# Altium integrated library Headers_Connectors.IntLib: 26 symbols
Pins are listed as number, name and electrical type; pins without a type are passive.

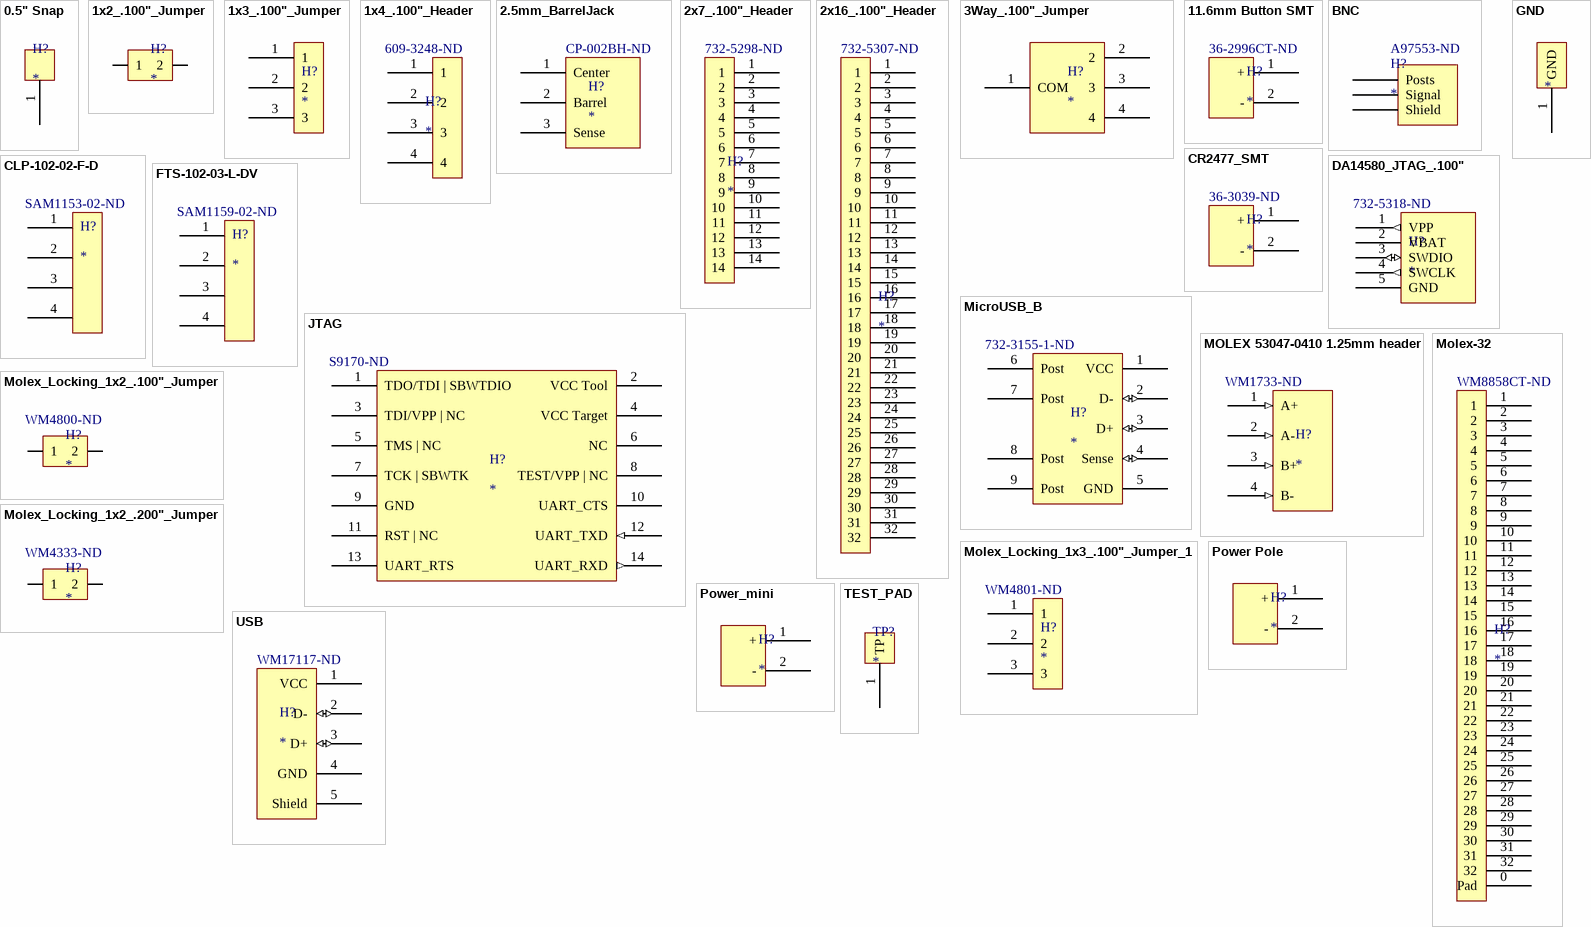
[diagram p0: symbols 0.5" Snap to USB]

## 0.5" Snap
designator H?
footprint 0.5" Snap
pins: 1

## 1x2_.100"_Jumper
designator H?
Supplier 1: Digi-Key; Supplier Part Number 1: 609-4434-ND
footprint 1x2_.100"_Jumper
pins: 1, 2

## 1x3_.100"_Jumper
designator H?
Supplier 1: Digi-Key; Supplier Part Number 1: 609-3461-ND
footprint 1x3_.100"_Jumper
pins: 1, 2, 3

## 1x4_.100"_Header
designator H?  Supplier Part Number 1: 609-3248-ND
Supplier 1: Digi-Key
footprint 1x4_.100"_Header
pins: 1, 2, 3, 4

## 2.5mm_BarrelJack
designator H?  Supplier Part Number 1: CP-002BH-ND
2.5mmCenter Pin; Supplier 1: Digikey
footprint CUI_BarrelJack
pins: 1 Center (power), 2 Barrel (power), 3 Sense (power)

## 2x7_.100"_Header
designator H?  Supplier Part Number 1: 732-5298-ND
Supplier 1: Digi-Key
footprint 2x7_.100"_header2
footprint 2x7_.100"_header2Reverse
pins: 1, 2, 3, 4, 5, 6, 7, 8, 9, 10, 11, 12, 13, 14

## 2x16_.100"_Header
designator H?  Supplier Part Number 1: 732-5307-ND
Supplier 1: Digi-Key
footprint 2x16_.100"_Header
pins: 1, 2, 3, 4, 5, 6, 7, 8, 9, 10, 11, 12, 13, 14, 15, 16, 17, 18, 19, 20, 21, 22, 23, 24, 25, 26, 27, 28, 29, 30, 31, 32

## 3Way_.100"_Jumper
designator H?
footprint 3Way_.100"_Jumper
pins: 1 COM, 2, 3, 4

## 11.6mm Button SMT
designator H?  Supplier Part Number 1: 36-2996CT-ND
Supplier 1: Digikey
footprint KEYSTONE_11.6mm
pins: 1 + (power), 2 - (power)

## BNC
designator H?  Supplier Part Number 1: A97553-ND
BNC; Supplier 1: Digikey
footprint BNC
pins: 0 Posts, 1 Signal, 2 Shield

## CLP-102-02-F-D
designator H?  Supplier Part Number 1: SAM1153-02-ND
Samtec CLP 2x2; Supplier 1: Digi-Key
footprint CLP-102-02-F-D (SAMTEC_CLP)
pins: 1, 2, 3, 4

## CR2477_SMT
designator H?  Supplier Part Number 1: 36-3039-ND
Supplier 1: Digi-Key
footprint KEYSTONE_CR2477
pins: 1 + (power), 2 - (power)

## DA14580_JTAG_.100"
designator H?  Supplier Part Number 1: 732-5318-ND
.100" JTAG; Supplier 1: Digi-Key
footprint DA14580_JTAG_.100"
pins: 1 VPP (out), 2 VBAT (power), 3 SWDIO (io), 4 SWCLK (out), 5 GND (power)

## FTS-102-03-L-DV
designator H?  Supplier Part Number 1: SAM1159-02-ND
Samtec FTS 2x2; Supplier 1: Digi-Key
footprint SAMTEC_FTS-102-03-L-DV (SAMTEC_FTS)
pins: 1, 2, 3, 4

## GND
designator GND
Supplier 1: Digi-Key; Supplier Part Number 1: 732-5314-ND
footprint 1x1_100"_TEST
pins: 1 GND (power)

## JTAG
designator H?  Supplier Part Number 1: S9170-ND
Supplier 1: Digi-Key
footprint MSP_JTAG
pins: 1 TDO/TDI | SBWTDIO, 2 VCC Tool, 3 TDI/VPP | NC, 4 VCC Target, 5 TMS | NC, 6 NC, 7 TCK | SBWTK, 8 TEST/VPP | NC, 9 GND (power), 10 UART_CTS, 11 RST | NC, 12 UART_TXD (in), 13 UART_RTS, 14 UART_RXD (out)

## MicroUSB_B
designator H?  Supplier Part Number 1: 732-3155-1-ND
Wurth MicroUSB_B; Supplier 1: Digi-Key
footprint Wurth_MicroUSB_B (MicroUSB_B)
pins: 1 VCC (power), 2 D- (io), 3 D+ (io), 4 Sense (io), 5 GND (power), 6 Post, 7 Post, 8 Post, 9 Post

## MOLEX 53047-0410 1.25mm header
designator H?  Supplier Part Number 1: WM1733-ND
Supplier 1: Digi-Key
footprint MOLEX 53047-0410 1.25mm header
pins: 1 A+ (in), 2 A- (in), 3 B+ (in), 4 B- (in)

## Molex-32
designator H?  Supplier Part Number 1: WM8858CT-ND
Molex 32 SMT; Supplier 1: Digikey
footprint Molex-0541323262 (32SMT)
pins: 0 Pad, 1, 2, 3, 4, 5, 6, 7, 8, 9, 10, 11, 12, 13, 14, 15, 16, 17, 18, 19, 20, 21, 22, 23, 24, 25, 26, 27, 28, 29, 30, 31, 32

## Molex_Locking_1x2_.100"_Jumper
designator H?  Supplier Part Number 1: WM4800-ND
Supplier 1: Digi-Key
footprint Molex_Locking_1x2_.100"_Jumper
pins: 1, 2

## Molex_Locking_1x2_.200"_Jumper
designator H?  Supplier Part Number 1: WM4333-ND
Power Connector; Supplier 1: Digi-Key
footprint Molex_Locking_1x2_.200"_Jumper (Power)
pins: 1, 2

## Molex_Locking_1x3_.100"_Jumper_1
designator H?  Supplier Part Number 1: WM4801-ND
Supplier 1: Digi-Key
footprint Molex_Locking_1x3_.100"_Jumper
pins: 1, 2, 3

## Power Pole
designator H?
footprint Wire Power Input
pins: 1 + (power), 2 - (power)

## Power_mini
designator H?
footprint Power_Mini
pins: 1 + (power), 2 - (power)

## TEST_PAD
designator TP?
Supplier 1: Digi-Key; Supplier Part Number 1: 732-5314-ND
footprint 1x1_100"_TEST
pins: 1 TP

## USB
designator H?  Supplier Part Number 1: WM17117-ND
USB A Male; Supplier 1: Digikey
footprint USB_A_Male
pins: 1 VCC (power), 2 D- (io), 3 D+ (io), 4 GND (power), 5 Shield